# EAGLE library part BC817DS (library kwoo)
NXP Dual NPN
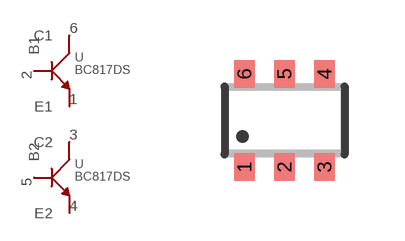
[diagram p48: symbol with the pads of 6-TSOP; footprint 6-TSOP]

Designator prefix -

## BC817DS  [6-TSOP]
1  E1
2  B1
3  C2
4  E2
5  B2
6  C1

## Footprint 6-TSOP (pad centres in mm)
smd 0.508 x 0.699: 1 -1.001,-1.163; 2 0,-1.163; 3 1.001,-1.163; 4 1.001,1.163; 5 0,1.163; 6 -1.001,1.163